# Altium schematic symbol library IND_DB.SchLib: 2 symbols
Pins are listed as number, name and electrical type; pins without a type are passive.

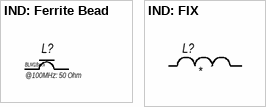
[diagram p0: symbols IND: Ferrite Bead to IND: FIX]

## IND: Ferrite Bead
designator L?  PartNumber: BLM18xxx  @100MHz: 50 Ohm
Manufacturer: Murata; TypeInductor: Ferrite Bead; Tolerance: ±25%; CategorySub: Bead; Temperature: -40...+125°C; Category: IND; Zone: =ZoneName
pins: 1, 2

## IND: FIX
designator L?
Power Inductors - SMD; Manufacturer: *; HelpURL: *; Temperature: *; TypeInductor: *; MaxCurrent: *; Tolerance: *; Category: IND; CategorySub: power ind; Zone: =ZoneName; Value: *; PartNumber: *
pins: 1, 2